# EAGLE library part LM358 (library FSAE Electric (Alexander Ray's conflicted copy 2016-04-02))
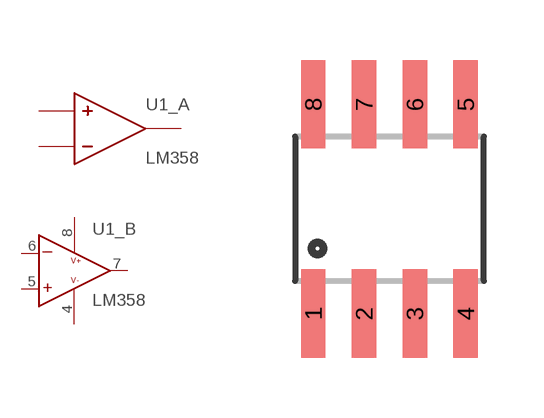
[diagram p95: symbol with the pads of SO-8; footprint SO-8]

Designator prefix U1; gates _A=OPAMP-NOPWR _B=OPAMP+P

## LM358PSR (PARTNO: LM358PSR)  [SO-8]
1  _A:VOUT  out
2  _A:-  in
3  _A:+  in
4  _B:V-
5  _B:+
6  _B:-
7  _B:O
8  _B:V+

## Footprint SO-8 (pad centres in mm)
smd 0.61 x 2.21: 1 -1.905,-2.616; 2 -0.635,-2.616; 3 0.635,-2.616; 4 1.905,-2.616; 5 1.905,2.616; 6 0.635,2.616; 7 -0.635,2.616; 8 -1.905,2.616